# EAGLE library part AD8271BRMZ (library analog-devices-jqi)
AD8271, 15 MHz BW difference amplifier
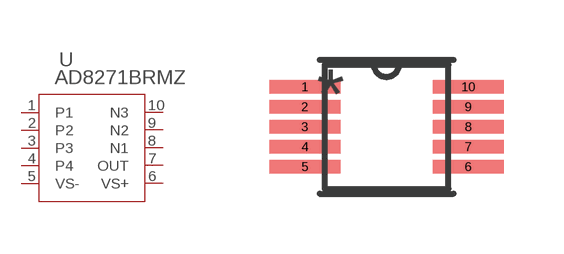
[diagram p1: symbol with the pads of RM_10; footprint RM_10]

Designator prefix U

## AD8271BRMZ (AMPLIFIERTYPE: Programmable Gain; COPYRIGHT: Copyright C 2015 Accelerated Designs. All rights reserved; CURRENTINPUTBIAS: 500nA; CURRENTOUTPUTCHANNEL: 100mA; CURRENTSUPPLY: 2.3mA; DATASHEET: httpwww.analog.comstaticimportedfilesdata_sheetsAD8271.pdf; DIGIKEYPARTNUMBER: AD8271BRMZND; GAINBANDWIDTHPRODUCT: 15MHz; MANUFACTURER_PART_NUMBER: AD8271BRMZ; MOUNTINGTYPE: Surface Mount; NUMBEROFCIRCUITS: 1; OPERATINGTEMPERATURE: 40°C ~ 85°C; OUTPUTTYPE: RailtoRail; PACKAGECASE: 10TFSOP 10MSOP 0.118" 3.00mm Width; PACKAGING: Tube; QUANTITY_AVAILABLE: 0; SLEWRATE: 30 Vµs; SUPPLIERDEVICEPACKAGE: 10MSOP; VENDOR: Analog Devices Inc; VOLTAGEINPUTOFFSET: 300µV; VOLTAGESUPPLYSINGLEDUAL: 5 V ~ 36 V 2.5 V ~ 18 V)  [RM_10]
1  P1  pas
2  P2  pas
3  P3  pas
4  P4  pas
5  VS-  pwr
6  VS+  pwr
7  OUT  pas
8  N1  pas
9  N2  pas
10  N3  pas

## Footprint RM_10 (pad centres in mm)
smd 1.778 x 0.33: 1 -2.045,1; 2 -2.045,0.5; 3 -2.045,0; 4 -2.045,-0.5; 5 -2.045,-1; 6 2.045,-1; 7 2.045,-0.5; 8 2.045,0; 9 2.045,0.5; 10 2.045,1